# Altium footprint library CON-3.PcbLib: 11 footprints
Each footprint in its own frame and in the unit in brackets; x right, y up, seen from the top. Pads: shape width x height; smd on the part's side, far side on the other; paste and mask are expansions set on the pad; w line width, h text height; cw(c..) or ccw(c..) is an arc to the next point about the centre after c.
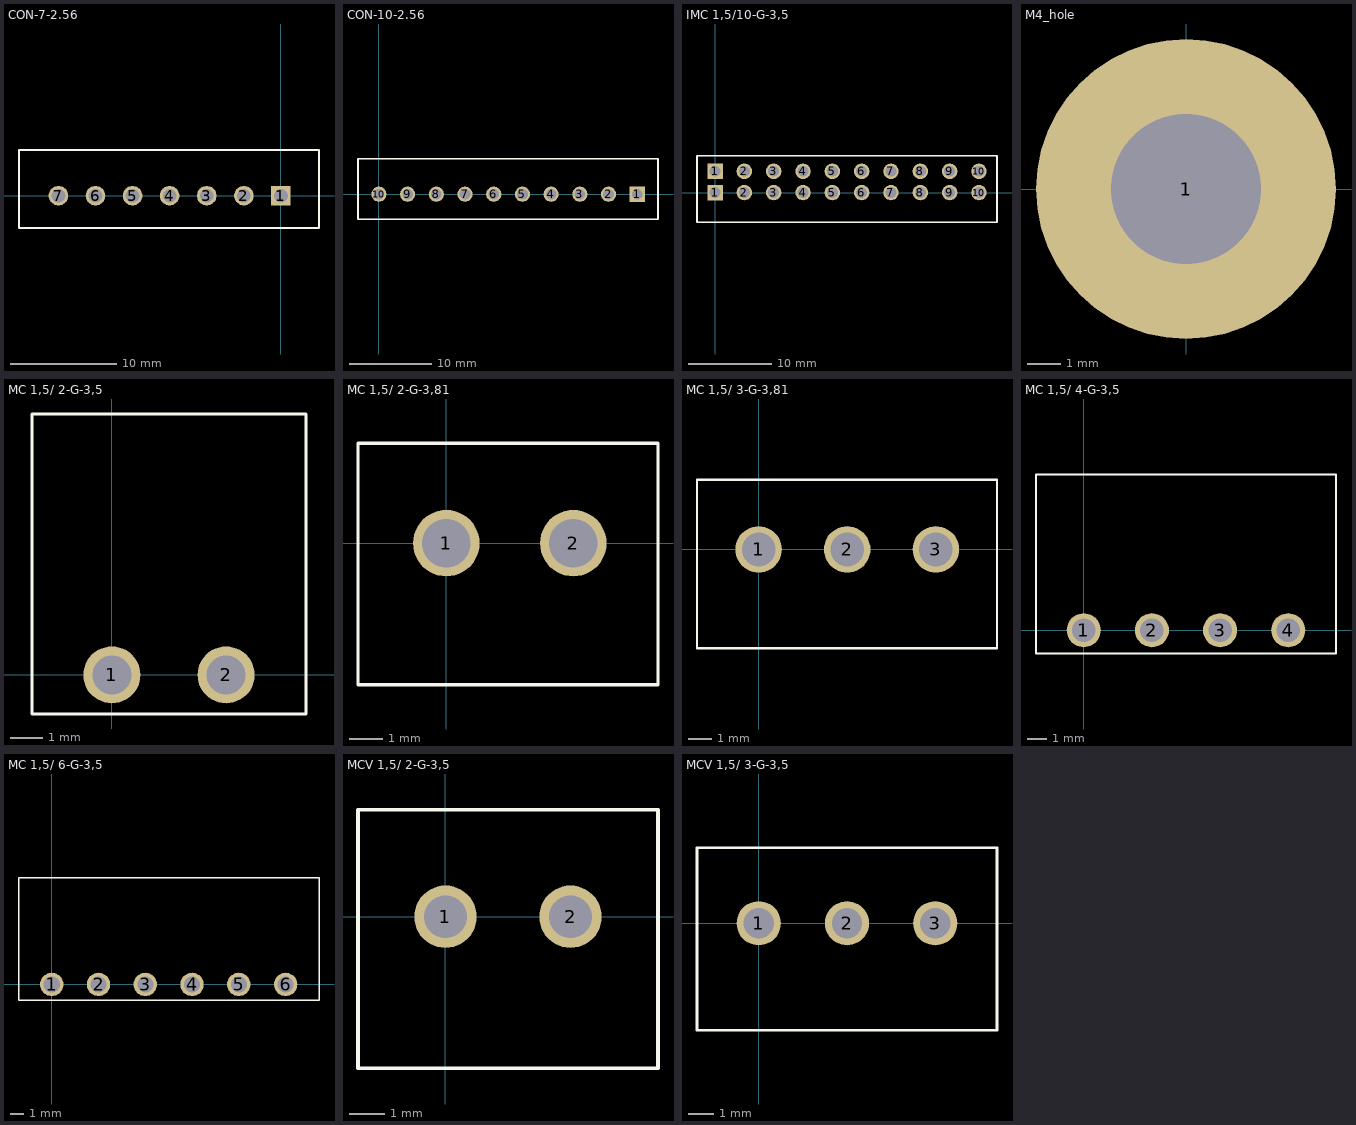
[diagram p0: the footprints below, top view; thin cyan lines are the x and y axes]

## CON-7-2.56 [mm]
pads (7):
  rect 1.85x1.85 hole 1.3: 1(0,0)
  round 1.85 hole 1.3: 2(-3.5,0) 3(-7,0) 4(-10.5,0) 5(-14,0) 6(-17.5,0) 7(-21,0)
Top Overlay:
  lines w0.2: -24.724,-3.048 -24.724,4.318 3.597,4.318 3.597,-3.048 -24.724,-3.048
3D body "1731536.stp": height 2.62, standoff -9.98, extent -24.664,-2.932 3.537,4.318

## CON-10-2.56 [mm]
pads (10):
  rect 1.85x1.85 hole 1.3: 1(31.5,0)
  round 1.85 hole 1.3: 2(28,0) 3(24.5,0) 4(21,0) 5(17.5,0) 6(14,0) 7(10.5,0) 8(7,0) 9(3.5,0) 10(0,0)
Top Overlay:
  lines w0.2: -2.55,-3.048 -2.55,4.318 34.03,4.318 34.03,-3.048 -2.55,-3.048
3D body "1843680.stp": height 2.9, standoff -9.7, extent -2.46,-3.005 33.94,4.245

## IMC 1,5/10-G-3,5 [mm]
pads (20):
  rect 1.85x1.85 hole 1.3: 1(0,0) 1(0,2.54)
  round 1.85 hole 1.3: 2(3.5,0) 2(3.5,2.54) 3(7,0) 3(7,2.54) 4(10.5,0) 4(10.5,2.54) 5(14,0) 5(14,2.54) 6(17.5,0) 6(17.5,2.54) 7(21,0) 7(21,2.54) 8(24.5,0) 8(24.5,2.54) 9(28,0) 9(28,2.54) 10(31.5,0) 10(31.5,2.54)
Top Overlay:
  lines w0.2: -2.15,-3.55 -2.15,4.4 33.65,4.4 33.65,-3.55 -2.15,-3.55
3D body "1830498_00.stp": height 6.3, standoff -1.99, extent -2.15,-10.1 33.65,4.35

## M4_hole [mm]
pads (1):
  round 9 hole 4.5: 1(0,0)

## MC 1,5/ 2-G-3,5 [mm]
pads (2):
  round 1.75 hole 1.2: 1(0,0) 2(3.5,0)
Top Overlay:
  lines w0.1: -2.45,-1.2 5.95,-1.2 5.95,8 -2.45,8 -2.45,-1.2
3D body "1844210.stp": height 7.25, standoff -3.4, extent -2.45,-1.2 5.95,8

## MC 1,5/ 2-G-3,81 [mm]
pads (2):
  round 2 hole 1.45: 1(0,0) 2(3.81,0)
Top Overlay:
  lines w0.1: -2.65,-4.25 6.35,-4.25 6.35,3 -2.65,3 -2.65,-4.25
3D body "1860647.stp": height 9.7, standoff -3.3, extent -2.655,-4.25 6.355,3

## MC 1,5/ 3-G-3,81 [mm]
pads (3):
  round 2 hole 1.45: 1(0,0) 2(3.81,0) 3(7.62,0)
Top Overlay:
  lines w0.1: -2.65,-4.25 10.25,-4.25 10.25,3 -2.65,3 -2.65,-4.25
3D body "1860650.stp": height 9.7, standoff -3.3, extent -2.61,-4.25 10.21,3

## MC 1,5/ 4-G-3,5 [mm]
pads (4):
  round 1.75 hole 1.2: 1(0,0) 2(3.5,0) 3(7,0) 4(10.5,0)
Top Overlay:
  lines w0.1: -2.45,-1.2 -2.45,8 12.95,8 12.95,-1.2 -2.45,-1.2
3D body "1844236.stp": height 2.4, standoff -8.25, extent -2.45,-1.2 12.95,8

## MC 1,5/ 6-G-3,5 [mm]
pads (6):
  round 1.75 hole 1.2: 1(0,0) 2(3.5,0) 3(7,0) 4(10.5,0) 5(14,0) 6(17.5,0)
Top Overlay:
  lines w0.1: -2.45,-1.2 -2.45,8 20,8 20,-1.2 -2.45,-1.2
3D body "1844252.stp": height 7.25, standoff -3.4, extent -2.45,-1.2 19.95,8

## MCV 1,5/ 2-G-3,5 [mm]
pads (2):
  round 1.75 hole 1.2: 1(0,0) 2(3.5,0)
Top Overlay:
  lines w0.1: -2.45,-4.25 5.95,-4.25 5.95,3 -2.45,3 -2.45,-4.25
3D body "1843606.stp": height 9.2, standoff -3.4, extent -2.45,-4.25 5.95,3

## MCV 1,5/ 3-G-3,5 [mm]
pads (3):
  round 1.75 hole 1.2: 1(0,0) 2(3.5,0) 3(7,0)
Top Overlay:
  lines w0.1: -2.45,-4.25 9.45,-4.25 9.45,3 -2.45,3 -2.45,-4.25